# Altium footprint library PcbLib1.PcbLib: 25 footprints (part 2 of 2)
Each footprint in its own frame and in the unit in brackets; x right, y up, seen from the top. Pads: shape width x height; smd on the part's side, far side on the other; paste and mask are expansions set on the pad; w line width, h text height; cw(c..) or ccw(c..) is an arc to the next point about the centre after c.
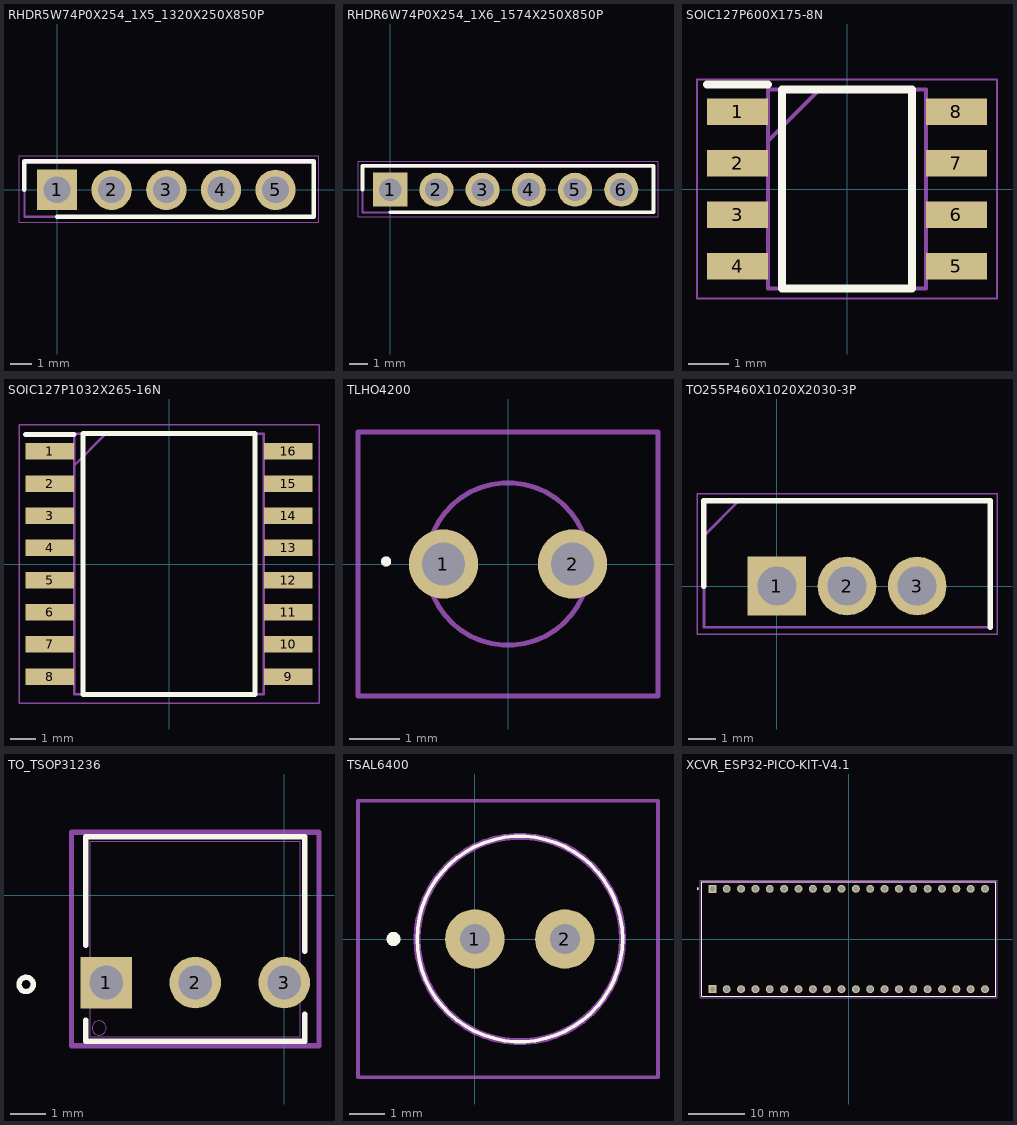
[diagram p1: the footprints below, top view; thin cyan lines are the x and y axes]

## RHDR5W74P0X254_1X5_1320X250X850P [mm]
pads (5):
  rect 1.875x1.875 hole 1.25: 1(0,0)
  round 1.875 hole 1.25: 2(2.54,0) 3(5.08,0) 4(7.62,0) 5(10.16,0)
Top Overlay:
  lines w0.2: -1.52,0 -1.52,1.325 11.93,1.325 11.93,-1.25 0,-1.25
Mechanical 13:
  lines w0.1: -1.52,-1.25 -1.52,1.25 11.93,1.25 11.93,-1.25 -1.52,-1.25
Mechanical 15:
  lines w0.05: -1.77,-1.5 -1.77,1.575 12.18,1.575 12.18,-1.5 -1.77,-1.5
3D body "2212S-05SG-85.stp": height 8.5, standoff -3.1, extent -1.52,-1.25 11.68,1.25

## RHDR6W74P0X254_1X6_1574X250X850P [mm]
pads (6):
  rect 1.875x1.875 hole 1.25: 1(0,0)
  round 1.875 hole 1.25: 2(2.54,0) 3(5.08,0) 4(7.62,0) 5(10.16,0) 6(12.7,0)
Top Overlay:
  lines w0.2: -1.52,0 -1.52,1.325 14.47,1.325 14.47,-1.25 0,-1.25
Mechanical 13:
  lines w0.1: -1.52,-1.25 -1.52,1.25 14.47,1.25 14.47,-1.25 -1.52,-1.25
Mechanical 15:
  lines w0.05: -1.77,-1.5 -1.77,1.575 14.72,1.575 14.72,-1.5 -1.77,-1.5
3D body "2212S-06SG-85.stp": height 8.5, standoff -3.1, extent -1.52,-1.25 14.22,1.25

## SOIC127P600X175-8N [mm]
pads (8):
  rect 1.5x0.65 smd: 1(-2.7,1.905) 2(-2.7,0.635) 3(-2.7,-0.635) 4(-2.7,-1.905) 5(2.7,-1.905) 6(2.7,-0.635) 7(2.7,0.635) 8(2.7,1.905)
Top Overlay:
  lines w0.2: -3.45,2.58 -1.95,2.58 ; -1.6,-2.45 -1.6,2.45 1.6,2.45 1.6,-2.45 -1.6,-2.45
Mechanical 13:
  lines w0.1: -1.95,1.18 -0.68,2.45 ; -1.95,-2.45 -1.95,2.45 1.95,2.45 1.95,-2.45 -1.95,-2.45
Mechanical 15:
  lines w0.05: -3.7,-2.7 -3.7,2.7 3.7,2.7 3.7,-2.7 -3.7,-2.7
3D body "AT24C32D-SSHM-B.stp": height 1.75, standoff 0, extent -3,-2.45 3,2.45

## SOIC127P1032X265-16N [mm]
pads (16):
  rect 1.925x0.65 smd: 1(-4.712,4.445) 2(-4.712,3.175) 3(-4.712,1.905) 4(-4.712,0.635) 5(-4.712,-0.635) 6(-4.712,-1.905) 7(-4.712,-3.175) 8(-4.712,-4.445) 9(4.712,-4.445) 10(4.712,-3.175) 11(4.712,-1.905) 12(4.712,-0.635) 13(4.712,0.635) 14(4.712,1.905) 15(4.712,3.175) 16(4.712,4.445)
Top Overlay:
  lines w0.2: -5.675,5.12 -3.75,5.12 ; -3.4,-5.15 -3.4,5.15 3.4,5.15 3.4,-5.15 -3.4,-5.15
Mechanical 13:
  lines w0.1: -3.75,3.88 -2.48,5.15 ; -3.75,-5.15 -3.75,5.15 3.75,5.15 3.75,-5.15 -3.75,-5.15
Mechanical 15:
  lines w0.05: -5.925,-5.5 -5.925,5.5 5.925,5.5 5.925,-5.5 -5.925,-5.5
3D body "DS3231SN#.stp": height 2.65, standoff 0, extent -5.162,-5.15 5.162,5.15

## TLHO4200 [mm]
pads (2):
  round 1.365 hole 0.84: 1(-1.27,0) 2(1.27,0)
Top Overlay:
  lines w0.1: -2.4,0 ccw(c-2.4,0.05) -2.4,0.1 ccw(c-2.4,0.05) -2.4,0
Mechanical 13:
  lines w0.1: -1.6,0 ccw(c0,0) 1.6,0 ccw(c0,0) -1.6,0
Mechanical 15:
  lines w0.1: -2.953,-2.6 2.953,-2.6 2.953,2.6 -2.953,2.6 -2.953,-2.6
3D body "TLHO4200.stp": height 6.2, standoff -5, extent -1.6,-1.588 1.6,1.588

## TO255P460X1020X2030-3P [mm]
pads (3):
  rect 2.13x2.13 hole 1.42: 1(0,0)
  round 2.13 hole 1.42: 2(2.55,0) 3(5.1,0)
Top Overlay:
  lines w0.2: -2.65,0 -2.65,3.1 7.75,3.1 7.75,-1.5
Mechanical 13:
  lines w0.1: -2.65,1.825 -1.375,3.1 ; -2.65,-1.5 7.75,-1.5 7.75,3.1 -2.65,3.1 -2.65,-1.5
Mechanical 15:
  lines w0.05: -2.9,-1.75 8,-1.75 8,3.35 -2.9,3.35 -2.9,-1.75
3D body "L78M05CP.stp": height 19.4, standoff -18.3, extent -2.55,-1.5 7.65,3.1

## TO_TSOP31236 [mil]
pads (3):
  rect 58x58 / inner round 60 / far side rect 58x58 hole 38 paste-99999 mask-29: 1(-200,-98)
  round 58 / inner round 60 / far side round 58 hole 38 paste-99999 mask-29: 2(-100,-98) 3(0,-98)
Top Overlay:
  circle w6: c-290,-100 r8
  lines w6: -223,-140.1 -223,-164 23,-164 23,-133.26 ; -223,-55.9 -223,66 23,66 23,-62.74
Mechanical 13:
  circle w0: c-208,-149 r8
  lines w1: -218,-159 18,-159 18,61 -218,61 -218,-159
Mechanical 15:
  lines w6: -239,-169 -239,71 39,71 39,-169 -239,-169
3D body "TO_TSOP31236.step": height 325, standoff -212.01, extent -217.99,-158.98 17.99,61.02

## TSAL6400 [mm]
pads (2):
  round 1.68 hole 0.85: 1(0,0) 2(2.54,0)
Top Overlay:
  lines w0.1: -1.63,0 cw(c1.27,0) 4.17,0 cw(c1.27,0) -1.63,0
  lines w0.2: -2.4,0 ccw(c-2.3,0) -2.2,0 ccw(c-2.3,0) -2.4,0
Mechanical 13:
  lines w0.2: -1.63,0 cw(c1.27,0) 4.17,0 cw(c1.27,0) -1.63,0
Mechanical 15:
  lines w0.1: -3.3,-3.9 -3.3,3.9 5.17,3.9 5.17,-3.9 -3.3,-3.9
3D body "TSAL6400.stp": height 9.8, standoff -5, extent -1.63,-2.888 4.17,2.888

## XCVR_ESP32-PICO-KIT-V4.1 [mm]
pads (40):
  rect 1.408x1.408 hole 0.9: J2_1(-24.13,8.89) J3_1(-24.13,-8.89)
  round 1.408 hole 0.9: J2_2(-21.59,8.89) J2_3(-19.05,8.89) J2_4(-16.51,8.89) J2_5(-13.97,8.89) J2_6(-11.43,8.89) J2_7(-8.89,8.89) J2_8(-6.35,8.89) J2_9(-3.81,8.89) J2_10(-1.27,8.89) J2_11(1.27,8.89) J2_12(3.81,8.89) J2_13(6.35,8.89) J2_14(8.89,8.89) J2_15(11.43,8.89) J2_16(13.97,8.89) J2_17(16.51,8.89) J2_18(19.05,8.89) J2_19(21.59,8.89) J2_20(24.13,8.89) J3_2(-21.59,-8.89) J3_3(-19.05,-8.89) J3_4(-16.51,-8.89) J3_5(-13.97,-8.89) J3_6(-11.43,-8.89) J3_7(-8.89,-8.89) J3_8(-6.35,-8.89) J3_9(-3.81,-8.89) J3_10(-1.27,-8.89) J3_11(1.27,-8.89) J3_12(3.81,-8.89) J3_13(6.35,-8.89) J3_14(8.89,-8.89) J3_15(11.43,-8.89) J3_16(13.97,-8.89) J3_17(16.51,-8.89) J3_18(19.05,-8.89) J3_19(21.59,-8.89) J3_20(24.13,-8.89)
Top Overlay:
  circle w0.2: c-26.75,8.89 r0.1
  lines w0.127: -26,-10.15 -26,10.15 26,10.15 26,-10.15 -26,-10.15
Mechanical 13:
  circle w0.2: c-26.75,8.89 r0.1
  lines w0.127: -26,-10.15 -26,10.15 26,10.15 26,-10.15 -26,-10.15
Mechanical 15:
  lines w0.05: -26.25,-10.4 -26.25,10.4 26.25,10.4 26.25,-10.4 -26.25,-10.4